# EAGLE library part HMC194 (library analog-devices)
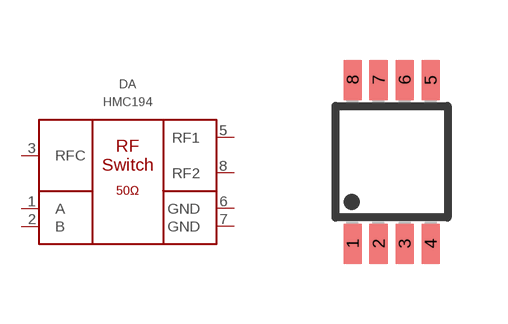
[diagram p12: symbol with the pads of MSOP8; footprint MSOP8]

Designator prefix DA

## HMC194AMS8  [MSOP8]
1  A  in
2  B  in
3  RFC  pas
5  RF1  pas
6  GND  pwr
7  GND  pwr
8  RF2  pas

## HMC194AMS8E  [MSOP8]
Pads as for MSOP8

## Footprint MSOP8 (pad centres in mm)
Micro Small Outline Package Grid .65mm
smd 0.45 x 1: 1 -0.975,-2.05; 2 -0.325,-2.05; 3 0.325,-2.05; 4 0.975,-2.05; 5 0.975,2.05; 6 0.325,2.05; 7 -0.325,2.05; 8 -0.975,2.05